# Altium schematic symbol library 插座.SchLib: 1 symbol
Pins are listed as number, name and electrical type; pins without a type are passive.

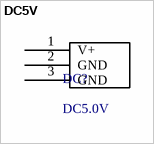
[diagram p0: symbol DC5V]

## DC5V
designator DC?, comment DC5.0V
footprint DC5V (DC 5.0V)
pins: 1 V+, 2 GND, 3 GND